# Altium footprint library ARM_Libary_EURO.PcbLib: 112 footprints (part 2 of 7)
Each footprint in its own frame and in the unit in brackets; x right, y up, seen from the top. Pads: shape width x height; smd on the part's side, far side on the other; paste and mask are expansions set on the pad; w line width, h text height; cw(c..) or ccw(c..) is an arc to the next point about the centre after c.
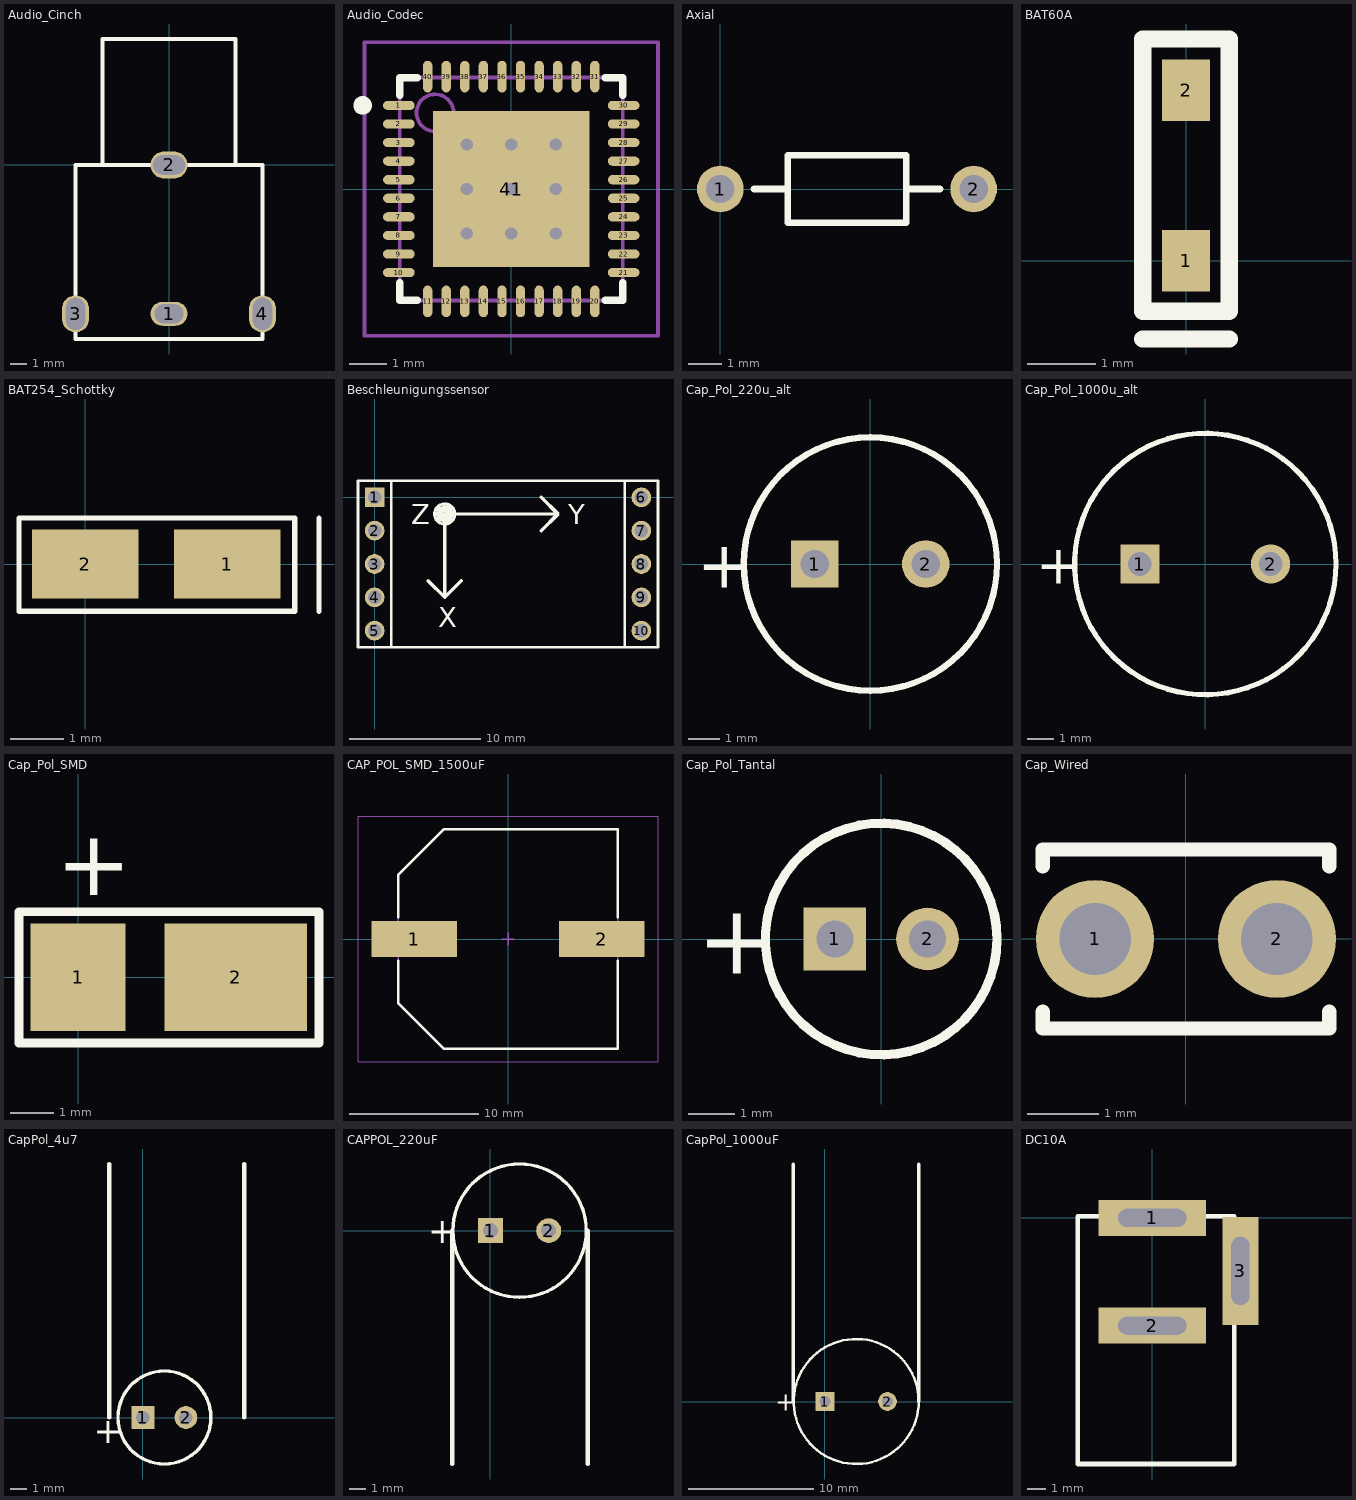
[diagram p1: the footprints below, top view; thin cyan lines are the x and y axes]

## Audio_Cinch [mm] "Audio Cinch Buchse"
height 12
pads (4):
  oval 2.3x1.5 hole 1.2 slot 1.8 at 0 deg: 1(0,-9.28)
  oval 2.3x1.7 hole 1.2 slot 2 at 0 deg: 2(0,0)
  oval 1.7x2.3 hole 1.2 slot 2 at 90 deg: 3(-5.825,-9.28) 4(5.825,-9.28)
Top Overlay:
  lines w0.254: -4.15,0 -4.15,7.85 4.15,7.85 4.15,0 ; -5.825,-10.85 5.825,-10.85 5.825,0 -5.825,0 -5.825,-10.85

## Audio_Codec [mm] "QFN, 40-Leads, Body 6,0x6,0mm (max), Pitch 0,50mm, IPC Low Density"
height 1
pads (41):
  oval 0.85x0.25 smd: 1(-3.025,2.25) 2(-3.025,1.75) 3(-3.025,1.25) 4(-3.025,0.75) 5(-3.025,0.25) 6(-3.025,-0.25) 7(-3.025,-0.75) 8(-3.025,-1.25) 9(-3.025,-1.75) 10(-3.025,-2.25) 21(3.025,-2.25) 22(3.025,-1.75) 23(3.025,-1.25) 24(3.025,-0.75) 25(3.025,-0.25) 26(3.025,0.25) 27(3.025,0.75) 28(3.025,1.25) 29(3.025,1.75) 30(3.025,2.25)
  oval 0.25x0.85 smd: 11(-2.25,-3.025) 12(-1.75,-3.025) 13(-1.25,-3.025) 14(-0.75,-3.025) 15(-0.25,-3.025) 16(0.25,-3.025) 17(0.75,-3.025) 18(1.25,-3.025) 19(1.75,-3.025) 20(2.25,-3.025) 31(2.25,3.025) 32(1.75,3.025) 33(1.25,3.025) 34(0.75,3.025) 35(0.25,3.025) 36(-0.25,3.025) 37(-0.75,3.025) 38(-1.25,3.025) 39(-1.75,3.025) 40(-2.25,3.025)
  rect 4.2x4.2 smd: 41(0,0)
via 1.2,-1.2 diameter 0.66 hole 0.33
via 0,-1.2 diameter 0.66 hole 0.33
via -1.2,-1.2 diameter 0.66 hole 0.33
via 1.2,0 diameter 0.66 hole 0.33
via 0,0 diameter 0.66 hole 0.33
via -1.2,0 diameter 0.66 hole 0.33
via 1.2,1.2 diameter 0.66 hole 0.33
via 0,1.2 diameter 0.66 hole 0.33
via -1.2,1.2 diameter 0.66 hole 0.33
Top Overlay:
  circle w0.25: c-4,2.25 r0.125
  lines w0.2: -3,-2.525 -3,-3 -2.525,-3 ; -3,2.525 -3,3 -2.525,3 ; 2.525,-3 3,-3 3,-2.525 ; 2.525,3 3,3 3,2.525
Mechanical 13:
  circle w0.1: c-2.05,2.05 r0.5
  lines w0.1: -3,-3 3,-3 3,3 -3,3 -3,-3
Mechanical 15:
  lines w0.1: -0.5,0 0.5,0 ; 0,-0.5 0,0.5 ; -3.95,-3.95 3.95,-3.95 3.95,3.95 -3.95,3.95 -3.95,-3.95
3D body: height 1, standoff 0, extent -3,-3 3,3

## Axial [mm] "Ferritperle"
pads (2):
  round 1.4 hole 0.85: 1(0,0) 2(7.62,0)
Top Overlay:
  lines w0.2: 1.016,0 2.032,0 ; 5.588,0 6.604,0 ; 2.032,-1.016 2.032,1.016 5.588,1.016 5.588,-1.016 2.032,-1.016

## BAT60A [mm]
pads (2):
  rect 0.7x0.9 smd: 1(0,0) 2(0,2.5)
Top Overlay:
  lines w0.254: -0.635,-1.143 0.635,-1.143 ; -0.635,-0.737 0.635,-0.737 0.635,3.251 -0.635,3.251 -0.635,-0.737

## BAT254_Schottky [mm]
pads (2):
  rect 2x1.3 smd: 1(2.667,0) 2(0,0)
Top Overlay:
  lines w0.1: 4.394,-0.889 4.394,0.864 ; -1.245,-0.889 -1.245,0.864 3.937,0.864 3.937,-0.889 -1.245,-0.889

## Beschleunigungssensor [mm] "BMA020-Modul (ELV Electronics)"
pads (10):
  rect 1.5x1.5 hole 1.016: 1(0,0)
  round 1.5 hole 1.016: 2(0,-2.54) 3(0,-5.08) 4(0,-7.62) 5(0,-10.16) 6(20.32,0) 7(20.32,-2.54) 8(20.32,-5.08) 9(20.32,-7.62) 10(20.32,-10.16)
Top Overlay:
  circle w0.254: c5.334,-1.27 r0.254
  circle w0.254: c5.334,-1.27 r0.508
  circle w0.254: c5.334,-1.27 r0.762
  lines w0.2: 21.59,-1.27 21.59,1.27 ; 1.27,-11.43 19.05,-11.43 ; 1.27,-11.43 -1.27,-11.43 -1.27,1.27 1.27,1.27 ; 1.27,-11.43 1.27,1.27 ; 1.27,1.27 19.05,1.27 ; 19.05,-11.43 19.05,1.27 ; 19.05,-11.43 21.59,-11.43 21.59,1.27 ; 19.05,1.27 21.59,1.27
  lines w0.254: 4.064,-6.35 5.334,-7.62 ; 6.604,-6.35 5.334,-7.62 ; 12.7,-2.54 13.97,-1.27 ; 12.7,0 13.97,-1.27 ; 5.334,-7.62 5.334,-1.27 13.97,-1.27
  text "Z" at 2.794,-2.032 h1.52
  text "Y" at 14.732,-2.032 h1.52
  text "X" at 4.826,-9.906 h1.52

## Cap_Pol_220u_alt [mm] "Capacitor, Electrolytic, Radial; Body 8 x 11.5 mm (Dia.xH typ); Pin Spacing 3.5 mm (typ)"
height 12.5
pads (2):
  rect 1.5x1.5 hole 0.9: 1(-1.75,0)
  round 1.5 hole 0.9: 2(1.75,0)
Top Overlay:
  circle w0.2: c0,0 r4
  text "+" at -5.475,-0.75 h1.5

## Cap_Pol_1000u_alt [mm] "Capacitor, Electrolytic, Radial; Body 10 x 20 mm (Dia.xH typ); Pin Spacing 5 mm (typ)"
height 22
pads (2):
  rect 1.5x1.5 hole 0.9: 1(-2.5,0)
  round 1.5 hole 0.9: 2(2.5,0)
Top Overlay:
  circle w0.2: c0,0 r5
  text "+" at -6.475,-0.75 h1.5

## Cap_Pol_SMD [mm]
pads (2):
  rect 2.2x2.5 smd: 1(0,0)
  rect 3.3x2.5 smd: 2(3.658,0)
Top Overlay:
  lines w0.2: -1.372,-1.524 -1.372,1.524 5.588,1.524 5.588,-1.524 -1.372,-1.524
  text "+" at -0.508,1.905 h1.52

## CAP_POL_SMD_1500uF [mm] "Aluminum Electrolytic Capacitor, Body 17,00x17,00x17,00mm, IPC Low Density"
height 17
pads (2):
  rect 6.65x2.75 smd: 1(-7.25,0) 2(7.25,0)
Top Overlay:
  lines w0.2: -8.5,-1.675 -8.5,-4.937 -4.938,-8.5 8.5,-8.5 8.5,-1.675 ; -8.5,1.675 -8.5,4.938 -4.938,8.5 8.5,8.5 8.5,1.675
Mechanical 13:
  lines w0.1: -8.5,-4.937 -4.938,-8.5 8.5,-8.5 8.5,8.5 -4.938,8.5 -8.5,4.938 -8.5,-4.937
Mechanical 15:
  lines w0.05: -11.6,-9.5 -11.6,9.5 11.6,9.5 11.6,-9.5 -11.6,-9.5
  lines w0.1: -0.5,0 0.5,0 ; 0,-0.5 0,0.5
3D body: height 5.67, standoff 0, extent -8.5,-8.5 8.5,8.5
3D body: height 17, standoff 0, extent -8,-8 7.937,7.968

## Cap_Pol_Tantal [mm] "Capacitor, Electrolytic, Radial; Body 5 x 11 mm (Dia.xH typ); Pin Spacing 2 mm (typ)"
height 12
pads (2):
  rect 1.35x1.35 hole 0.8: 1(-1,0)
  round 1.35 hole 0.8: 2(1,0)
Top Overlay:
  circle w0.2: c0,0 r2.5
  text "+" at -3.975,-0.75 h1.5

## Cap_Wired [mm] "Capacitor, Ceramic, Thru-Hole, Dipped Radial; Body 4 x 2.5 mm (WxT) Pin Spacing 2.54 mm (typ)"
height 4.6
pads (2):
  round 1.65 hole 1: 1(-1.27,0) 2(1.27,0)
Top Overlay:
  lines w0.2: -2,-1.015 -2,-1.25 2,-1.25 2,-1.015 ; -2,1.015 -2,1.25 2,1.25 2,1.015

## CapPol_4u7 [mm]
pads (2):
  rect 1.35x1.35 hole 0.8: 1(0,0)
  round 1.35 hole 0.8: 2(2.54,0)
Top Overlay:
  circle w0.2: c1.27,0 r2.75
  lines w0.254: -2,0 -2,15 ; 6,0 6,15
  text "+" at -2.921,-1.524 h1.5

## CAPPOL_220uF [mm] "CAP 220uF"
pads (2):
  rect 1.5x1.5 hole 0.9: 1(0,0)
  round 1.5 hole 0.9: 2(3.5,0)
Top Overlay:
  circle w0.2: c1.75,0 r4
  lines w0.254: -2.286,-14 -2.286,0 ; 5.842,-14 5.842,0
  text "+" at -3.725,-0.75 h1.5

## CapPol_1000uF [mm] "1000uF polarized Capacitor"
pads (2):
  rect 1.5x1.5 hole 0.9: 1(0,0)
  round 1.5 hole 0.9: 2(5,0)
Top Overlay:
  circle w0.2: c2.5,0 r5
  lines w0.254: -2.54,0 -2.54,19 ; 7.5,0 7.5,19
  text "+" at -3.975,-0.75 h1.5

## DC10A [mm] "Netzteil-Buchse 9-12V"
pads (3):
  rect 6x2 hole 1 slot 3.8 at 0 deg: 1(0,0) 2(0,-6)
  rect 2x6 hole 1 slot 3.8 at 90 deg: 3(4.9,-2.95)
Top Overlay:
  lines w0.254: -2.05,0.1 -4.15,0.1 -4.15,-13.7 0.2,-13.7 4.55,-13.7 4.55,-5.15 ; 2.45,0.1 4.55,0.1 4.55,-0.65